# Altium footprint library Package_TO_SOT_THT.PcbLib: 236 footprints (part 15 of 15)
Each footprint in its own frame and in the unit in brackets; x right, y up, seen from the top. Pads: shape width x height; smd on the part's side, far side on the other; paste and mask are expansions set on the pad; w line width, h text height; cw(c..) or ccw(c..) is an arc to the next point about the centre after c.
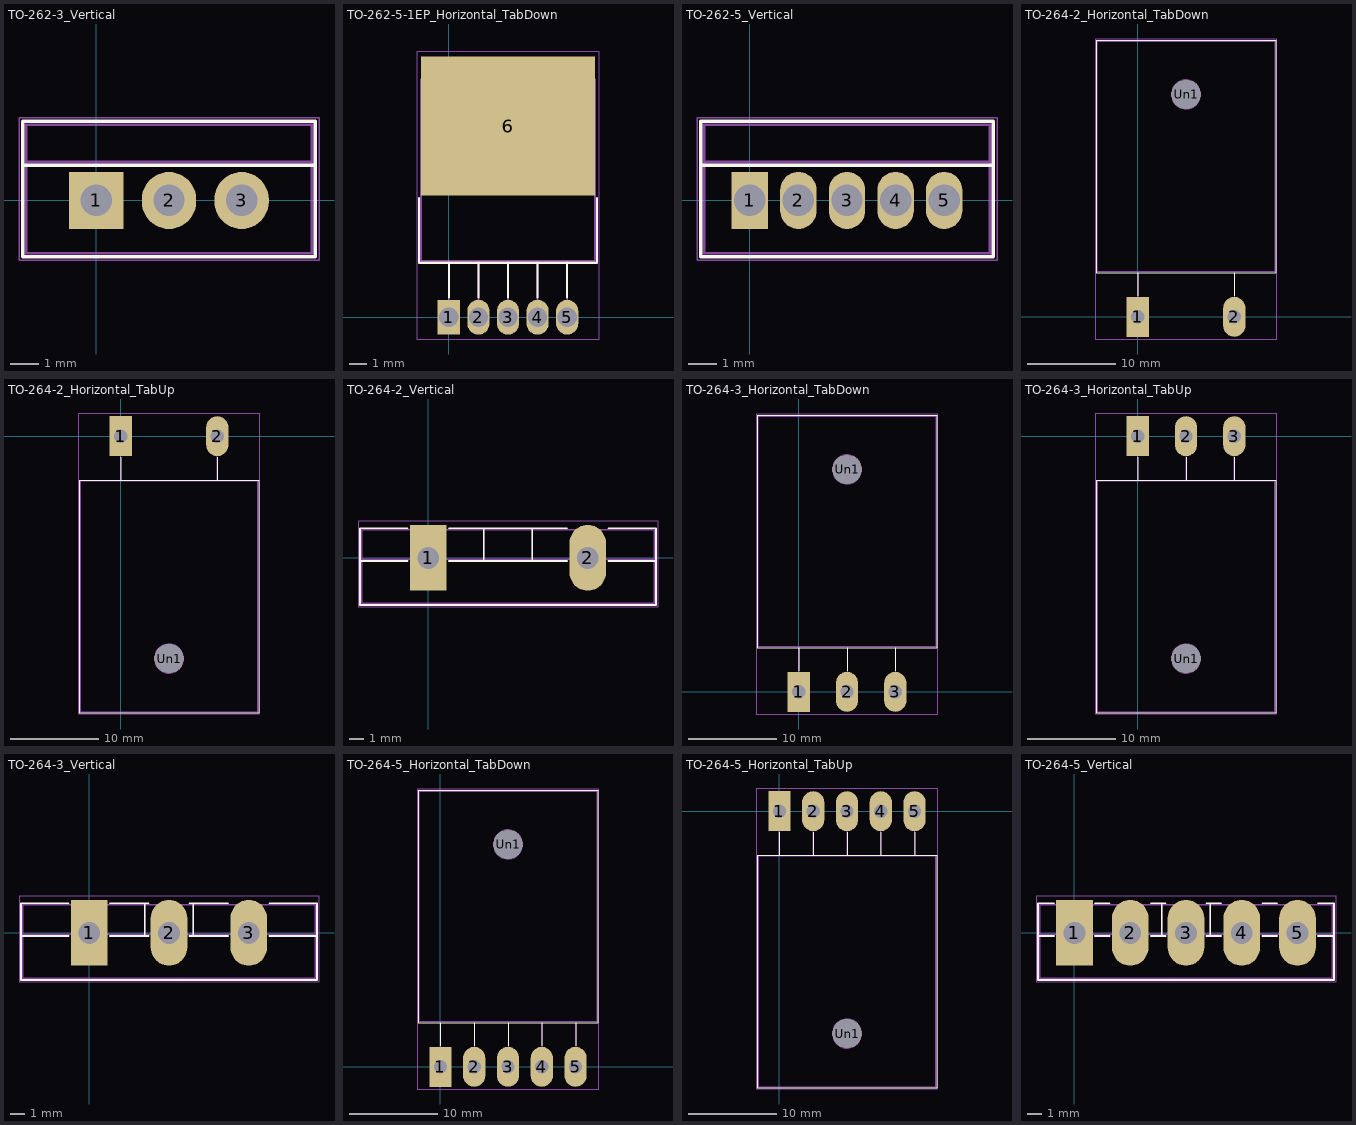
[diagram p14: the footprints below, top view; thin cyan lines are the x and y axes]

## TO-262-3_Vertical [mm]
pads (3):
  rect 1.905x2 hole 1.1: 1(0,0)
  rrect100% 1.905x2 hole 1.1: 2(2.54,0) 3(5.08,0)
F.SilkS:
  lines w0.12: -2.58,1.23 7.66,1.23 ; -2.58,-1.971 7.66,-1.971 7.66,2.77 -2.58,2.77 -2.58,-1.971
F.CrtYd:
  lines w0.05: -2.71,-2.1 -2.71,2.9 7.79,2.9 7.79,-2.1 -2.71,-2.1
F.Fab:
  lines w0.1: -2.46,1.35 7.54,1.35 ; -2.46,-1.85 -2.46,2.65 7.54,2.65 7.54,-1.85 -2.46,-1.85
  text "'.Designator'" at -1.507,2.93 h1

## TO-262-5-1EP_Horizontal_TabDown [mm]
pads (6):
  rect 1.275x2 hole 1.1: 1(0,0)
  rrect100% 1.275x2 hole 1.1: 2(1.7,0) 3(3.4,0) 4(5.1,0) 5(6.8,0)
  rect 10x8 smd: 6(3.4,10.983)
F.SilkS:
  lines w0.12: -1.721,6.834 -1.721,3.13 8.52,3.13 8.52,6.834 ; 0,1.15 0,3.13 ; 1.7,1.15 1.7,3.13 ; 3.4,1.15 3.4,3.13 ; 5.1,1.15 5.1,3.13 ; 6.8,1.15 6.8,3.13
F.CrtYd:
  lines w0.05: -1.85,-1.25 8.65,-1.25 8.65,15.24 -1.85,15.24 -1.85,-1.25
F.Fab:
  lines w0.1: 0,0 0,3.25 ; 1.7,0 1.7,3.25 ; 3.4,0 3.4,3.25 ; 5.1,0 5.1,3.25 ; 6.8,0 6.8,3.25 ; -1.6,12.45 -1.6,3.25 8.4,3.25 8.4,12.45 ; -1.6,12.45 8.4,12.45 ; -1.6,12.45 8.4,12.45 ; -1.6,12.45 -1.6,13.65 8.4,13.65 8.4,12.45
  text "'.Designator'" at -0.647,15.263 h1

## TO-262-5_Vertical [mm]
pads (5):
  rect 1.275x2 hole 1.1: 1(0,0)
  rrect100% 1.275x2 hole 1.1: 2(1.7,0) 3(3.4,0) 4(5.1,0) 5(6.8,0)
F.SilkS:
  lines w0.12: -1.721,1.23 8.52,1.23 ; -1.721,-1.971 -1.721,2.77 8.52,2.77 8.52,-1.971 -1.721,-1.971
F.CrtYd:
  lines w0.05: -1.85,-2.1 8.65,-2.1 8.65,2.9 -1.85,2.9 -1.85,-2.1
F.Fab:
  lines w0.1: -1.6,1.35 8.4,1.35 ; -1.6,-1.85 -1.6,2.65 8.4,2.65 8.4,-1.85 -1.6,-1.85
  text "'.Designator'" at -0.647,2.93 h1

## TO-264-2_Horizontal_TabDown [mm]
pads (3):
  rect 2.5x4.5 hole 1.5: 1(0,0)
  rrect100% 2.5x4.5 hole 1.5: 2(10.9,0)
  rrect100% 3.3x3.3 hole 3.3: Un1(5.45,25.08)
F.SilkS:
  lines w0.12: 0,2.4 0,4.96 ; 10.9,2.4 10.9,4.96 ; -4.67,4.96 -4.67,31.2 15.57,31.2 15.57,4.96 -4.67,4.96
F.CrtYd:
  lines w0.05: -4.8,-2.5 15.7,-2.5 15.7,31.33 -4.8,31.33 -4.8,-2.5
F.Fab:
  circle w0.1: c5.45,25.08 r1.65
  lines w0.1: 0,0 0,5.08 ; 10.9,0 10.9,5.08 ; -4.55,5.08 15.45,5.08 15.45,31.08 -4.55,31.08 -4.55,5.08
  text "'.Designator'" at 1.403,31.36 h1

## TO-264-2_Horizontal_TabUp [mm]
pads (3):
  rect 2.5x4.5 hole 1.5: 1(0,0)
  rrect100% 2.5x4.5 hole 1.5: 2(10.9,0)
  rrect100% 3.3x3.3 hole 3.3: Un1(5.45,-25.08)
F.SilkS:
  lines w0.12: 0,-4.96 0,-2.4 ; 10.9,-4.96 10.9,-2.4 ; -4.67,-31.2 15.57,-31.2 15.57,-4.96 -4.67,-4.96 -4.67,-31.2
F.CrtYd:
  lines w0.05: -4.8,-31.33 15.7,-31.33 15.7,2.5 -4.8,2.5 -4.8,-31.33
F.Fab:
  circle w0.1: c5.45,-25.08 r1.65
  lines w0.1: 0,-5.08 0,0 ; 10.9,-5.08 10.9,0 ; -4.55,-31.08 -4.55,-5.08 15.45,-5.08 15.45,-31.08 -4.55,-31.08
  text "'.Designator'" at 1.403,-33.04 h1

## TO-264-2_Vertical [mm]
pads (2):
  rect 2.5x4.5 hole 1.5: 1(0,0)
  rrect100% 2.5x4.5 hole 1.5: 2(10.9,0)
F.SilkS:
  lines w0.12: -4.67,-0.22 -1.4,-0.22 ; -1.4,2.021 -4.67,2.021 -4.67,-3.22 15.57,-3.22 15.57,2.021 12.3,2.021 ; 1.4,-0.22 9.5,-0.22 ; 1.4,2.021 9.5,2.021 ; 3.8,-0.22 3.8,2.021 ; 7.1,-0.22 7.1,2.021 ; 12.3,-0.22 15.57,-0.22
F.CrtYd:
  lines w0.05: -4.8,-3.35 -4.8,2.5 15.7,2.5 15.7,-3.35 -4.8,-3.35
F.Fab:
  lines w0.1: -4.55,-0.1 15.45,-0.1 ; 3.8,-0.1 3.8,1.9 ; 7.1,-0.1 7.1,1.9 ; -4.55,-3.1 15.45,-3.1 15.45,1.9 -4.55,1.9 -4.55,-3.1
  text "'.Designator'" at 1.403,2.18 h1

## TO-264-3_Horizontal_TabDown [mm]
pads (4):
  rect 2.5x4.5 hole 1.5: 1(0,0)
  rrect100% 2.5x4.5 hole 1.5: 2(5.45,0) 3(10.9,0)
  rrect100% 3.3x3.3 hole 3.3: Un1(5.45,25.08)
F.SilkS:
  lines w0.12: 0,2.4 0,4.96 ; 5.45,2.4 5.45,4.96 ; 10.9,2.4 10.9,4.96 ; -4.67,4.96 15.57,4.96 15.57,31.2 -4.67,31.2 -4.67,4.96
F.CrtYd:
  lines w0.05: -4.8,-2.5 15.7,-2.5 15.7,31.33 -4.8,31.33 -4.8,-2.5
F.Fab:
  circle w0.1: c5.45,25.08 r1.65
  lines w0.1: 0,0 0,5.08 ; 5.45,0 5.45,5.08 ; 10.9,0 10.9,5.08 ; -4.55,5.08 -4.55,31.08 15.45,31.08 15.45,5.08 -4.55,5.08
  text "'.Designator'" at 1.403,31.36 h1

## TO-264-3_Horizontal_TabUp [mm]
pads (4):
  rect 2.5x4.5 hole 1.5: 1(0,0)
  rrect100% 2.5x4.5 hole 1.5: 2(5.45,0) 3(10.9,0)
  rrect100% 3.3x3.3 hole 3.3: Un1(5.45,-25.08)
F.SilkS:
  lines w0.12: 0,-4.96 0,-2.4 ; 5.45,-4.96 5.45,-2.4 ; 10.9,-4.96 10.9,-2.4 ; -4.67,-31.2 -4.67,-4.96 15.57,-4.96 15.57,-31.2 -4.67,-31.2
F.CrtYd:
  lines w0.05: -4.8,-31.33 15.7,-31.33 15.7,2.5 -4.8,2.5 -4.8,-31.33
F.Fab:
  circle w0.1: c5.45,-25.08 r1.65
  lines w0.1: 0,-5.08 0,0 ; 5.45,-5.08 5.45,0 ; 10.9,-5.08 10.9,0 ; -4.55,-31.08 -4.55,-5.08 15.45,-5.08 15.45,-31.08 -4.55,-31.08
  text "'.Designator'" at 1.403,-33.04 h1

## TO-264-3_Vertical [mm]
pads (3):
  rect 2.5x4.5 hole 1.5: 1(0,0)
  rrect100% 2.5x4.5 hole 1.5: 2(5.45,0) 3(10.9,0)
F.SilkS:
  lines w0.12: -4.67,-0.22 -1.4,-0.22 ; -1.4,2.021 -4.67,2.021 -4.67,-3.22 15.57,-3.22 15.57,2.021 12.3,2.021 ; 1.4,-0.22 4.051,-0.22 ; 1.4,2.021 4.051,2.021 ; 3.8,-0.22 3.8,2.021 ; 6.85,-0.22 9.5,-0.22 ; 6.85,2.021 9.5,2.021 ; 7.1,-0.22 7.1,2.021 ; 12.3,-0.22 15.57,-0.22
F.CrtYd:
  lines w0.05: -4.8,-3.35 15.7,-3.35 15.7,2.5 -4.8,2.5 -4.8,-3.35
F.Fab:
  lines w0.1: -4.55,-0.1 15.45,-0.1 ; 3.8,-0.1 3.8,1.9 ; 7.1,-0.1 7.1,1.9 ; -4.55,-3.1 -4.55,1.9 15.45,1.9 15.45,-3.1 -4.55,-3.1
  text "'.Designator'" at 1.403,2.18 h1

## TO-264-5_Horizontal_TabDown [mm]
pads (6):
  rect 2.5x4.5 hole 1.5: 1(0,0)
  rrect100% 2.5x4.5 hole 1.5: 2(3.81,0) 3(7.62,0) 4(11.43,0) 5(15.24,0)
  rrect100% 3.3x3.3 hole 3.3: Un1(7.62,25.08)
F.SilkS:
  lines w0.12: 0,2.4 0,4.96 ; 3.81,2.4 3.81,4.96 ; 7.62,2.4 7.62,4.96 ; 11.43,2.4 11.43,4.96 ; 15.24,2.4 15.24,4.96 ; -2.5,4.96 17.74,4.96 17.74,31.2 -2.5,31.2 -2.5,4.96
F.CrtYd:
  lines w0.05: -2.63,-2.5 17.87,-2.5 17.87,31.33 -2.63,31.33 -2.63,-2.5
F.Fab:
  circle w0.1: c7.62,25.08 r1.65
  lines w0.1: 0,0 0,5.08 ; 3.81,0 3.81,5.08 ; 7.62,0 7.62,5.08 ; 11.43,0 11.43,5.08 ; 15.24,0 15.24,5.08 ; -2.38,5.08 17.62,5.08 17.62,31.08 -2.38,31.08 -2.38,5.08
  text "'.Designator'" at 3.573,31.36 h1

## TO-264-5_Horizontal_TabUp [mm]
pads (6):
  rect 2.5x4.5 hole 1.5: 1(0,0)
  rrect100% 2.5x4.5 hole 1.5: 2(3.81,0) 3(7.62,0) 4(11.43,0) 5(15.24,0)
  rrect100% 3.3x3.3 hole 3.3: Un1(7.62,-25.08)
F.SilkS:
  lines w0.12: 0,-4.96 0,-2.4 ; 3.81,-4.96 3.81,-2.4 ; 7.62,-4.96 7.62,-2.4 ; 11.43,-4.96 11.43,-2.4 ; 15.24,-4.96 15.24,-2.4 ; -2.5,-31.2 -2.5,-4.96 17.74,-4.96 17.74,-31.2 -2.5,-31.2
F.CrtYd:
  lines w0.05: -2.63,-31.33 17.87,-31.33 17.87,2.5 -2.63,2.5 -2.63,-31.33
F.Fab:
  circle w0.1: c7.62,-25.08 r1.65
  lines w0.1: 0,-5.08 0,0 ; 3.81,-5.08 3.81,0 ; 7.62,-5.08 7.62,0 ; 11.43,-5.08 11.43,0 ; 15.24,-5.08 15.24,0 ; -2.38,-31.08 -2.38,-5.08 17.62,-5.08 17.62,-31.08 -2.38,-31.08
  text "'.Designator'" at 3.573,-33.04 h1

## TO-264-5_Vertical [mm]
pads (5):
  rect 2.5x4.5 hole 1.5: 1(0,0)
  rrect100% 2.5x4.5 hole 1.5: 2(3.81,0) 3(7.62,0) 4(11.43,0) 5(15.24,0)
F.SilkS:
  lines w0.12: -2.5,-0.22 -1.4,-0.22 ; -1.4,2.021 -2.5,2.021 -2.5,-3.22 17.74,-3.22 17.74,2.021 16.64,2.021 ; 1.4,-0.22 2.41,-0.22 ; 1.4,2.021 2.41,2.021 ; 5.21,-0.22 6.221,-0.22 ; 5.21,2.021 6.221,2.021 ; 5.971,-0.22 5.971,2.021 ; 9.02,-0.22 10.03,-0.22 ; 9.02,2.021 10.03,2.021 ; 9.27,-0.22 9.27,2.021 ; 12.83,-0.22 13.84,-0.22 ; 12.83,2.021 13.84,2.021 ; 16.64,-0.22 17.74,-0.22
F.CrtYd:
  lines w0.05: -2.63,-3.35 17.87,-3.35 17.87,2.5 -2.63,2.5 -2.63,-3.35
F.Fab:
  lines w0.1: -2.38,-0.1 17.62,-0.1 ; 5.97,-0.1 5.97,1.9 ; 9.27,-0.1 9.27,1.9 ; -2.38,-3.1 17.62,-3.1 17.62,1.9 -2.38,1.9 -2.38,-3.1
  text "'.Designator'" at 3.573,2.18 h1